# EAGLE library part PTSM0,5/3-V-2,5-THR-R44 (library con-ptsm)
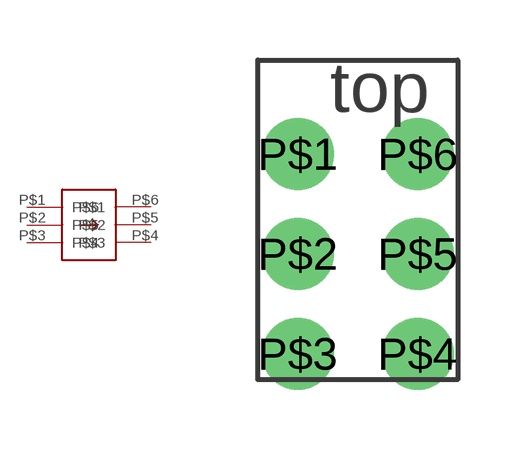
[diagram p1: symbol with the pads of PTSM0,5/3-2,5-V-THR; footprint PTSM0,5/3-2,5-V-THR]

Designator prefix -

## PTSM0,5/3-V-2,5-THR-R44  [PTSM0,5/3-2,5-V-THR]
P$1  P$1
P$2  P$2
P$3  P$3
P$4  P$4
P$5  P$5
P$6  P$6

## Footprint PTSM0,5/3-2,5-V-THR (pad centres in mm)
drill 1.2: P$1 1,2.5; P$2 1,0; P$3 1,-2.5; P$4 4,-2.5; P$5 4,0; P$6 4,2.5